# EAGLE library part E73-2G4M04S (library stock_components)
Webseite: http://www.cdebyte.com/en/product-view-news.aspx?id=243
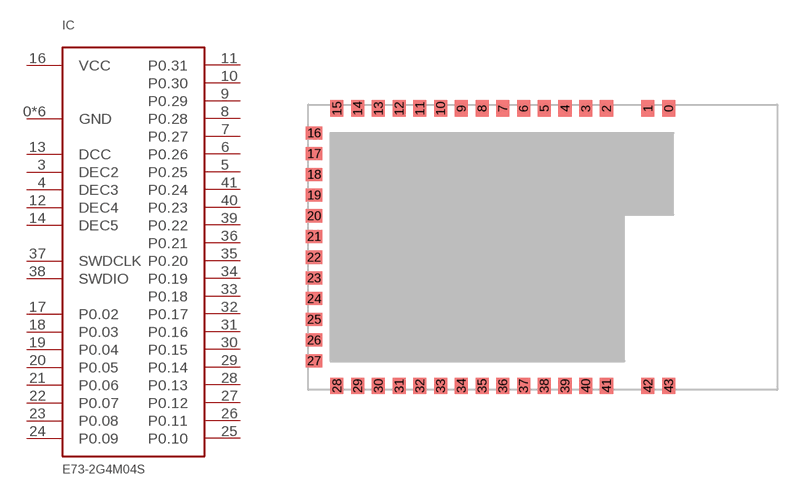
[diagram p1: symbol with the pads of E73-2G4M04S; footprint E73-2G4M04S]

Designator prefix IC

## E73-2G4M04S  [E73-2G4M04S]
0  GND  sup
1  GND  sup
2  GND  sup
3  DEC2
4  DEC3
5  P0.25
6  P0.26
7  P0.27
8  P0.28
9  P0.29
10  P0.30
11  P0.31
12  DEC4
13  DCC
14  DEC5
15  GND  sup
16  VCC  sup
17  P0.02
18  P0.03
19  P0.04
20  P0.05
21  P0.06
22  P0.07
23  P0.08
24  P0.09
25  P0.10
26  P0.11
27  P0.12
28  P0.13
29  P0.14
30  P0.15
31  P0.16
32  P0.17
33  P0.18
34  P0.19
35  P0.20
36  P0.21
37  SWDCLK
38  SWDIO
39  P0.22
40  P0.23
41  P0.24
42  GND  sup
43  GND  sup

## Footprint E73-2G4M04S (pad centres in mm)
smd 0.8 x 1: 0 7.715,8.5; 1 6.445,8.5; 2 3.905,8.5; 3 2.635,8.5; 4 1.365,8.5; 5 0.095,8.5; 6 -1.175,8.5; 7 -2.445,8.5; 8 -3.715,8.5; 9 -4.985,8.5; 10 -6.255,8.5; 11 -7.525,8.5; 12 -8.795,8.5; 13 -10.065,8.5; 14 -11.335,8.5; 15 -12.605,8.5; 28 -12.605,-8.5; 29 -11.335,-8.5; 30 -10.065,-8.5; 31 -8.795,-8.5; 32 -7.525,-8.5; 33 -6.255,-8.5; 34 -4.985,-8.5; 35 -3.715,-8.5; 36 -2.445,-8.5; 37 -1.175,-8.5; 38 0.095,-8.5; 39 1.365,-8.5; 40 2.635,-8.5; 41 3.905,-8.5; 42 6.445,-8.5; 43 7.715,-8.5
smd 1 x 0.8: 16 -14,7.005; 17 -14,5.735; 18 -14,4.465; 19 -14,3.195; 20 -14,1.925; 21 -14,0.655; 22 -14,-0.615; 23 -14,-1.885; 24 -14,-3.155; 25 -14,-4.425; 26 -14,-5.695; 27 -14,-6.965